# Altium schematic symbol library Transistors.SchLib: 16 symbols
Pins are listed as number, name and electrical type; pins without a type are passive.

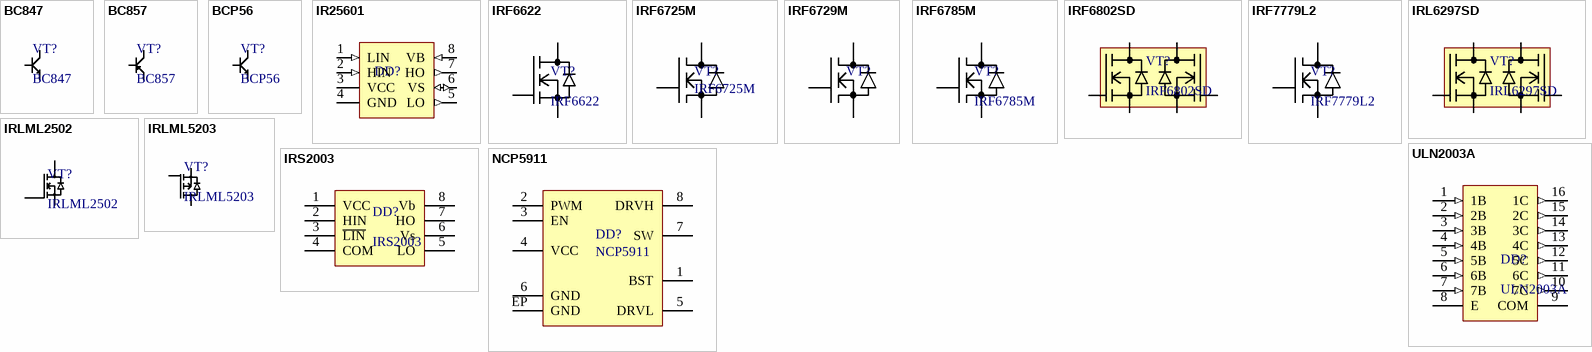
[diagram p0: symbols BC847 to ULN2003A]

## BC847
designator VT?
NPN Transistor
footprint SOT-23-3
pins: 1 B (power), 2 E (power), 3 C (power)

## BC857
designator VT?
NPN Transistor
footprint SOT-23-3
pins: 1 B (power), 2 E (power), 3 C (power)

## BCP56
designator VT?
NPN Transistor
footprint SOT-223
pins: 1 B (power), 2 C (power), 3 E (power)

## IR25601
designator DD?  (value not drawn)
MOSFET driver
footprint SO-8
pins: 1 LIN (in), 2 HIN (in), 3 VCC (power), 4 GND (power), 5 LO (out), 6 VS (io), 7 HO (out), 8 VB (in)

## IRF6622
designator VT?
N-MOSFET DirectFET SQ
footprint DIRECTFET SQ
pins: 1 G (power), 2 D (power), 3 S (power)

## IRF6725M
designator VT?
DirectFET MX N-MOSFET
footprint DIRECTFET MX (Nyashka)
pins: 1 G (power), 2 D (power), 3 S (power)

## IRF6729M
designator VT?  (value not drawn)
DirectFET MX N-MOSFET
footprint DIRECTFET MX (Nyashka)
pins: 1 G (power), 2 D (power), 3 S (power)

## IRF6785M
designator VT?
DirectFET MZ N-MOSFET
footprint DIRECTFET MZ
pins: 1 G (power), 2 D (power), 3 S (power)

## IRF6802SD
designator VT?
DirectFET SA N-MOSFET 2x
footprint DIRECTFET SA
pins: 1 G (power), 2 D (power), 3 S (power), 4 G (power), 5 D (power), 6 S (power)

## IRF7779L2
designator VT?
DirectFET L8 N-MOSFET
footprint DIRECTFET L8
pins: 1 G (power), 2 D (power), 3 S (power)

## IRL6297SD
designator VT?
DirectFET SA N-MOSFET 2x
footprint DIRECTFET SA
pins: 1 G (power), 2 D (power), 3 S (power), 4 G (power), 5 D (power), 6 S (power)

## IRLML2502
designator VT?
IRLML2502 N-MOSFET SOT-23
footprint SOT-23-3
pins: 1 G (power), 2 S (power), 3 D (power)

## IRLML5203
designator VT?
P-MOSFET
footprint SOT-23-3
pins: 1 G (power), 2 D (power), 3 S (power)

## IRS2003
designator DD?
MOSFET driver
footprint SO-8
pins: 1 VCC, 2 HIN, 3 ~{LIN}, 4 COM, 5 LO, 6 Vs, 7 HO, 8 Vb

## NCP5911
designator DD?
MOSFET Driver low size
footprint DFN-8 2X2
pins: 1 BST, 2 PWM, 3 EN, 4 VCC, 5 DRVL, 6 GND, 7 SW, 8 DRVH, EP GND

## ULN2003A
designator DD?
7 transistors array
footprint SO-16
pins: 1 1B (in), 2 2B (in), 3 3B (in), 4 4B (in), 5 5B (in), 6 6B (in), 7 7B (in), 8 E (power), 9 COM, 10 7C (out), 11 6C (out), 12 5C (out), 13 4C (out), 14 3C (out), 15 2C (out), 16 1C (out)